# EAGLE library part POLOLU-MICROMOTOR (library motores)
Este motorreductor es un motor de CC de 6 V con escobillas de alta potencia en miniatura , con escobillas de carbón de larga duración y una caja de engranajes de metal de 51.45: 1 . Tiene una sección transversal de 10 × 12 mm y el eje de salida de la caja de engranajes en forma de D tiene 9 mm de largo y 3 mm de diámetro 6 V 650 RPM, 100 mA 0.74 kg⋅cm (10 oz⋅in), 1.5 A Agregue codificadores de cuadratura a sus motorreductores de metal, MP o HP (se requiere una versión con eje trasero extendido) con este kit que utiliza un disco magnético y sensores de efecto hall para proporcionar 12 conteos por revolución del eje del motor. Los sensores funcionan de 2.7 V a 18 V y proporcionan salidas digitales que se pueden conectar directamente a un microcontrolador u otro circuito digital. Nota: esta versión no es compatible con los motorreductores de metal micro HPCB; Solo es compatible con motorreductores de metal micro LP, MP y HP de doble eje. https://www.pololu.com/product/2598
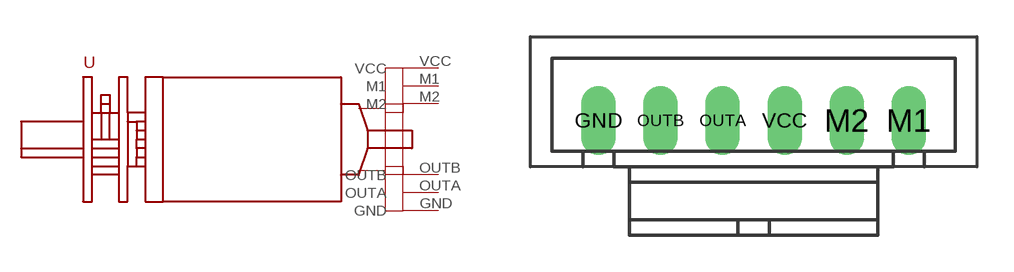
[diagram p0: symbol with the pads of JST; footprint JST]

Designator prefix -

## POLOLU-MICROMOTOR  [JST]
GND  GND
M1  M1
M2  M2
OUTA  OUTA
OUTB  OUTB
VCC  VCC

## Footprint JST (pad centres in mm)
Salidas con headers hembra a motores dc
drill 0.6 pad 1.422 long: GND -6.35,0; M1 6.35,0; M2 3.81,0; OUTA -1.27,0
drill 0.8 pad 1.422 long: OUTB -3.81,0; VCC 1.27,0